# EAGLE library part MC13192 (library GW-devices)
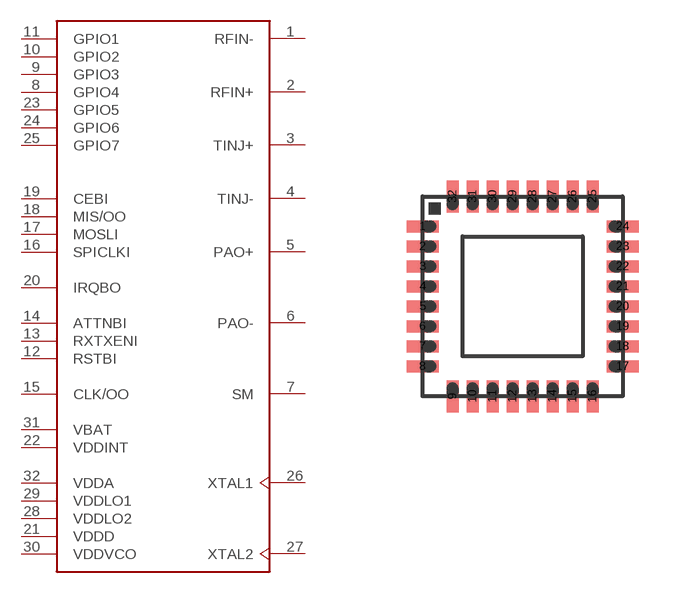
[diagram p1: symbol with the pads of S-PQFP-N32(RHB); footprint S-PQFP-N32(RHB)]

Designator prefix -

## MC13192  [S-PQFP-N32(RHB)]
1  RFIN-
2  RFIN+
3  TINJ+  nc
4  TINJ-  nc
5  PAO+
6  PAO-
7  SM  nc
8  GPIO4
9  GPIO3
10  GPIO2
11  GPIO1
12  RSTBI
13  RXTXENI
14  ATTNBI
15  CLK/OO
16  SPICLKI
17  MOSLI
18  MIS/OO
19  CEBI  nc
20  IRQBO
21  VDDD  pwr
22  VDDINT  pwr
23  GPIO5
24  GPIO6
25  GPIO7
26  XTAL1
27  XTAL2
28  VDDLO2  pwr
29  VDDLO1  pwr
30  VDDVCO  pwr
31  VBAT  pwr
32  VDDA  pwr

## Footprint S-PQFP-N32(RHB) (pad centres in mm)
smd 0.8 x 0.3: 1 -2.5,1.75; 2 -2.5,1.25; 3 -2.5,0.75; 4 -2.5,0.25; 5 -2.5,-0.25; 6 -2.5,-0.75; 7 -2.5,-1.25; 8 -2.5,-1.75; 17 2.5,-1.75; 18 2.5,-1.25; 19 2.5,-0.75; 20 2.5,-0.25; 21 2.5,0.25; 22 2.5,0.75; 23 2.5,1.25; 24 2.5,1.75
smd 0.3 x 0.8: 9 -1.75,-2.5; 10 -1.25,-2.5; 11 -0.75,-2.5; 12 -0.25,-2.5; 13 0.25,-2.5; 14 0.75,-2.5; 15 1.25,-2.5; 16 1.75,-2.5; 25 1.75,2.5; 26 1.25,2.5; 27 0.75,2.5; 28 0.25,2.5; 29 -0.25,2.5; 30 -0.75,2.5; 31 -1.25,2.5; 32 -1.75,2.5